# Altium schematic symbol library 691 214 110 0xxS.SchLib: 2 symbols
Pins are listed as number, name and electrical type; pins without a type are passive.

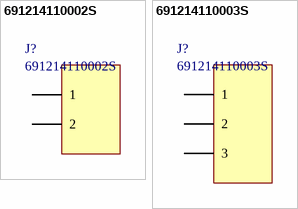
[diagram p0: symbols 691214110002S to 691214110003S]

## 691214110002S
designator J?
Horizontal Cable Entry with Rising Cage Clamp, Serie 2141S - 3.50 mm; Manufacturer: Wurth Elektronik; ComponentLink1 Description: Manufacturer; ComponentLink2 Description: Datasheet; NoPins: 2; ComponentLink1 URL: http://www.we-online.com; ComponentLink2 URL: http://katalog.we-online.de/em/datasheet/6912141100xxS.pdf; Created By: Baojun Chen; Created Date: 6-Aug-15; PartNo: 691214110002S
footprint 691214110002S (Serie 2141S - 3.50 mm _ 2 pins)
pins: 1, 2

## 691214110003S
designator J?
Horizontal Cable Entry with Rising Cage Clamp, Serie 2141S - 3.50 mm; Manufacturer: Wurth Elektronik; ComponentLink1 Description: Manufacturer; ComponentLink2 Description: Datasheet; NoPins: 3; ComponentLink1 URL: http://www.we-online.com; ComponentLink2 URL: http://katalog.we-online.de/em/datasheet/6912141100xxS.pdf; Created By: Baojun Chen; Created Date: 6-Aug-15; PartNo: 691214110003S
footprint 691214110003S (Serie 2141S - 3.50 mm _ 3 pins)
pins: 1, 2, 3